# Altium footprint library MP28164GD-Z.PcbLib: 1 footprints
Each footprint in its own frame and in the unit in brackets; x right, y up, seen from the top. Pads: shape width x height; smd on the part's side, far side on the other; paste and mask are expansions set on the pad; w line width, h text height; cw(c..) or ccw(c..) is an arc to the next point about the centre after c.
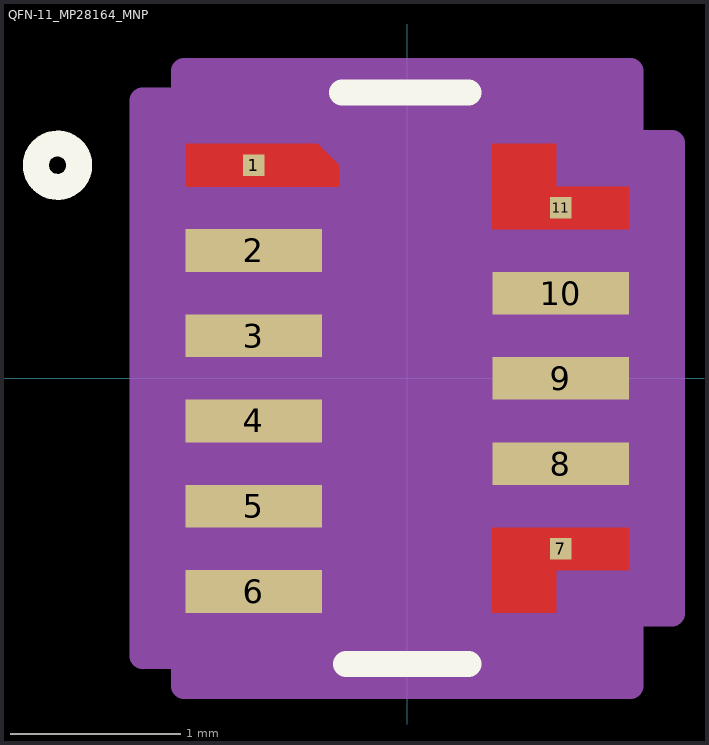
[diagram p0: the footprint, top view; thin cyan lines are the x and y axes]

## QFN-11_MP28164_MNP [mm]
pads (11):
  rect 0.127x0.127 smd paste-0.064 mask+0: 1(-0.9,1.25) 7(0.9,-1) 11(0.9,1)
  rect 0.8x0.25 smd paste-0.125 mask+0: 2(-0.9,0.75) 3(-0.9,0.25) 4(-0.9,-0.25) 5(-0.9,-0.75) 6(-0.9,-1.25) 8(0.9,-0.5) 9(0.9,0) 10(0.9,0.5)
Top Layer:
  region: 1.3,1.125 1.3,0.875 0.5,0.875 0.5,1.375 0.875,1.375 0.875,1.125
  region: -0.525,1.375 -1.3,1.375 -1.3,1.125 -0.4,1.125 -0.4,1.25
  region: 1.3,-1.125 1.3,-0.875 0.5,-0.875 0.5,-1.375 0.875,-1.375 0.875,-1.125
Top Overlay:
  circle w0.152: c-2.052,1.25 r0.127
  lines w0.152: -0.384,1.676 0.359,1.676 ; -0.359,-1.676 0.359,-1.676
Top Paste:
  region: 1.3,-1.125 1.3,-0.875 0.5,-0.875 0.5,-1.375 0.875,-1.375 0.875,-1.125
  region: 1.3,1.125 1.3,0.875 0.5,0.875 0.5,1.375 0.875,1.375 0.875,1.125
  region: -0.525,1.375 -1.3,1.375 -1.3,1.125 -0.4,1.125 -0.4,1.25
  region: -0.525,1.375 -1.3,1.375 -1.3,1.125 -0.4,1.125 -0.4,1.25
Top Solder:
  region: 1.3,-1.125 1.3,-0.875 0.5,-0.875 0.5,-1.375 0.875,-1.375 0.875,-1.125
  region: 1.3,1.125 1.3,0.875 0.5,0.875 0.5,1.375 0.875,1.375 0.875,1.125
  region: -0.525,1.375 -1.3,1.375 -1.3,1.125 -0.4,1.125 -0.4,1.25
  region: -0.525,1.375 -1.3,1.375 -1.3,1.125 -0.4,1.125 -0.4,1.25
Mechanical 13:
  circle w0: c-0.5,1.25 r0.076
  lines w0: -0.305,1.549 ccw(c0,1.549) 0.305,1.549
  lines w0.025: -1.054,-1.549 -1.054,1.549 1.054,1.549 1.054,-1.549 -1.054,-1.549
Mechanical 15:
  region: 1.308,1.379 1.308,1.803 -1.308,1.803 -1.308,1.629 -1.554,1.629 -1.554,-1.629 -1.308,-1.629 -1.308,-1.803 1.308,-1.803 1.308,-1.379 1.554,-1.379 1.554,1.379
  lines w0.152: -1.554,-1.629 -1.308,-1.629 -1.308,-1.803 1.308,-1.803 1.308,-1.379 1.554,-1.379 1.554,1.379 1.308,1.379 1.308,1.803 -1.308,1.803 -1.308,1.629 -1.554,1.629 -1.554,-1.629